# Altium schematic symbol library P_JFET.Schlib: 1 symbol
Pins are listed as number, name and electrical type; pins without a type are passive.

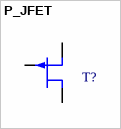
[diagram p0: symbol P_JFET]

## P_JFET
designator T?
P-Channel JFET
pins: D, G, S